# EAGLE library part SHARP-PC-SLOT (library KaiBader-Sharp-PC)
Sharp PC-1500(A) / PC-1600 slot for 40-pin Cartridge
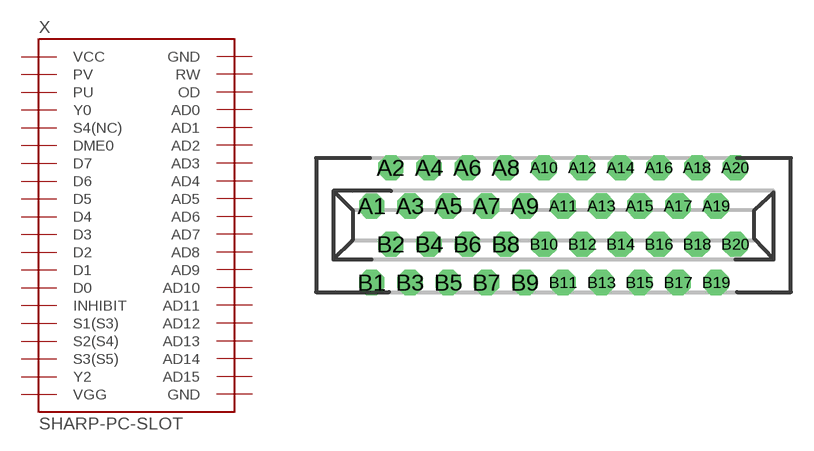
[diagram p2: symbol with the pads of SHARP-PC-SLOT; footprint SHARP-PC-SLOT]

Designator prefix X

## SHARP-PC-SLOT  [SHARP-PC-SLOT]
A1  GND  pwr
A2  AD15
A3  AD14
A4  AD13
A5  AD12
A6  AD11
A7  AD10
A8  AD9
A9  AD8
A10  AD7
A11  AD6
A12  AD5
A13  AD4
A14  AD3
A15  AD2
A16  AD1
A17  AD0
A18  OD
A19  RW
A20  GND  pwr
B1  VCC  pwr
B2  PV
B3  PU
B4  Y0
B5  S4(NC)
B6  DME0
B7  D7
B8  D6
B9  D5
B10  D4
B11  D3
B12  D2
B13  D1
B14  D0
B15  INHIBIT
B16  S1(S3)
B17  S2(S4)
B18  S3(S5)
B19  Y2
B20  VGG  pwr

## Footprint SHARP-PC-SLOT (pad centres in mm)
Sharp PC 1500/1600 Slot Connector
drill 1.016 pad 1.676 octagon: A1 -12.065,1.27; A2 -10.795,3.81; A3 -9.525,1.27; A4 -8.255,3.81; A5 -6.985,1.27; A6 -5.715,3.81; A7 -4.445,1.27; A8 -3.175,3.81; A9 -1.905,1.27; A10 -0.635,3.81; A11 0.635,1.27; A12 1.905,3.81; A13 3.175,1.27; A14 4.445,3.81; A15 5.715,1.27; A16 6.985,3.81; A17 8.255,1.27; A18 9.525,3.81; A19 10.795,1.27; A20 12.065,3.81; B1 -12.065,-3.81; B2 -10.795,-1.27; B3 -9.525,-3.81; B4 -8.255,-1.27; B5 -6.985,-3.81; B6 -5.715,-1.27; B7 -4.445,-3.81; B8 -3.175,-1.27; B9 -1.905,-3.81; B10 -0.635,-1.27; B11 0.635,-3.81; B12 1.905,-1.27; B13 3.175,-3.81; B14 4.445,-1.27; B15 5.715,-3.81; B16 6.985,-1.27; B17 8.255,-3.81; B18 9.525,-1.27; B19 10.795,-3.81; B20 12.065,-1.27